# Altium footprint library APC.PcbLib: 68 footprints (part 5 of 5)
Each footprint in its own frame and in the unit in brackets; x right, y up, seen from the top. Pads: shape width x height; smd on the part's side, far side on the other; paste and mask are expansions set on the pad; w line width, h text height; cw(c..) or ccw(c..) is an arc to the next point about the centre after c.
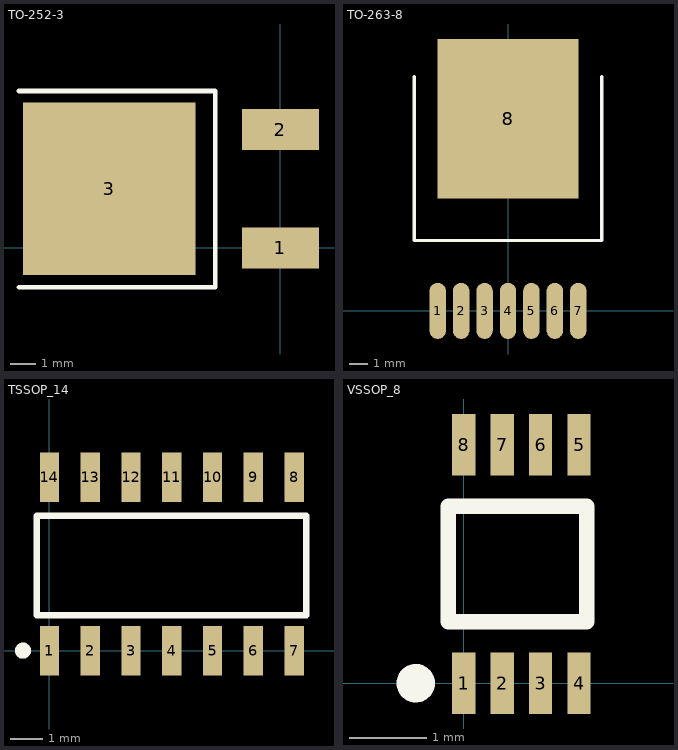
[diagram p4: the footprints below, top view; thin cyan lines are the x and y axes]

## TO-252-3 [mm] "TO-252-3 (D-Pak)"
height 2.286
pads (3):
  rect 3x1.6 smd: 1(0,0) 2(0,4.6)
  rect 6.7x6.7 smd: 3(-6.65,2.3)
Top Overlay:
  lines w0.178: -10.16,-1.524 -2.54,-1.524 -2.54,6.096 -10.16,6.096
3D body: height 2.29, standoff 0, extent -9,-1 -2.8,5.6

## TO-263-8 [mil] "8-pin TO-263 pkg"
height 350
pads (8):
  oval 35x120 smd: 1(-150,0) 2(-100,0) 3(-50,0) 4(0,0) 5(50,0) 6(100,0) 7(150,0)
  rect 300x340 smd: 8(0,410)
Top Overlay:
  lines w7: -200,500 -200,150 200,150 200,500
3D body: height 350, standoff 0, extent -200,150 200,500

## TSSOP_14 [mm] "14-PIN TSSOP, (TI pkg D)"
height 1.75
pads (14):
  rect 0.6x1.55 smd: 1(0,0) 2(1.27,0) 3(2.54,0) 4(3.81,0) 5(5.08,0) 6(6.35,0) 7(7.62,0) 8(7.62,5.4) 9(6.35,5.4) 10(5.08,5.4) 11(3.81,5.4) 12(2.54,5.4) 13(1.27,5.4) 14(0,5.4)
Top Overlay:
  circle w0.25: c-0.825,0 r0.125
  lines w0.2: -0.4,1.1 8,1.1 8,4.2 -0.4,4.2 -0.4,1.1
3D body: height 1.75, standoff 0, extent -0.5,1 8.1,4.3

## VSSOP_8 [mm] "VSSOP, 8-Leads, Body 2.4x2.1mm,"
height 0.9
pads (8):
  rect 0.3x0.8 smd: 1(0,0) 2(0.5,0) 3(1,0) 4(1.5,0) 5(1.5,3.1) 6(1,3.1) 7(0.5,3.1) 8(0,3.1)
Top Overlay:
  circle w0.25: c-0.625,0 r0.125
  lines w0.2: -0.2,0.8 1.6,0.8 1.6,2.3 -0.2,2.3 -0.2,0.8
3D body: height 0.9, standoff 0, extent -0.3,0.4 1.7,2.7